# EAGLE library part ATMEGA328P (library FPV-Auto)
ATmega328P 8-Bit Mikrocontroller - MCU 32KB In-system Flash 20MHz 1.8V-5.5V Links Datasheet <http://ww1.microchip.com/downloads/en/DeviceDoc/ATmega48A-PA-88A-PA-168A-PA-328-P-DS-DS40002061A.pdf> Product website <https://www.microchip.com/wwwproducts/en/ATmega328p>
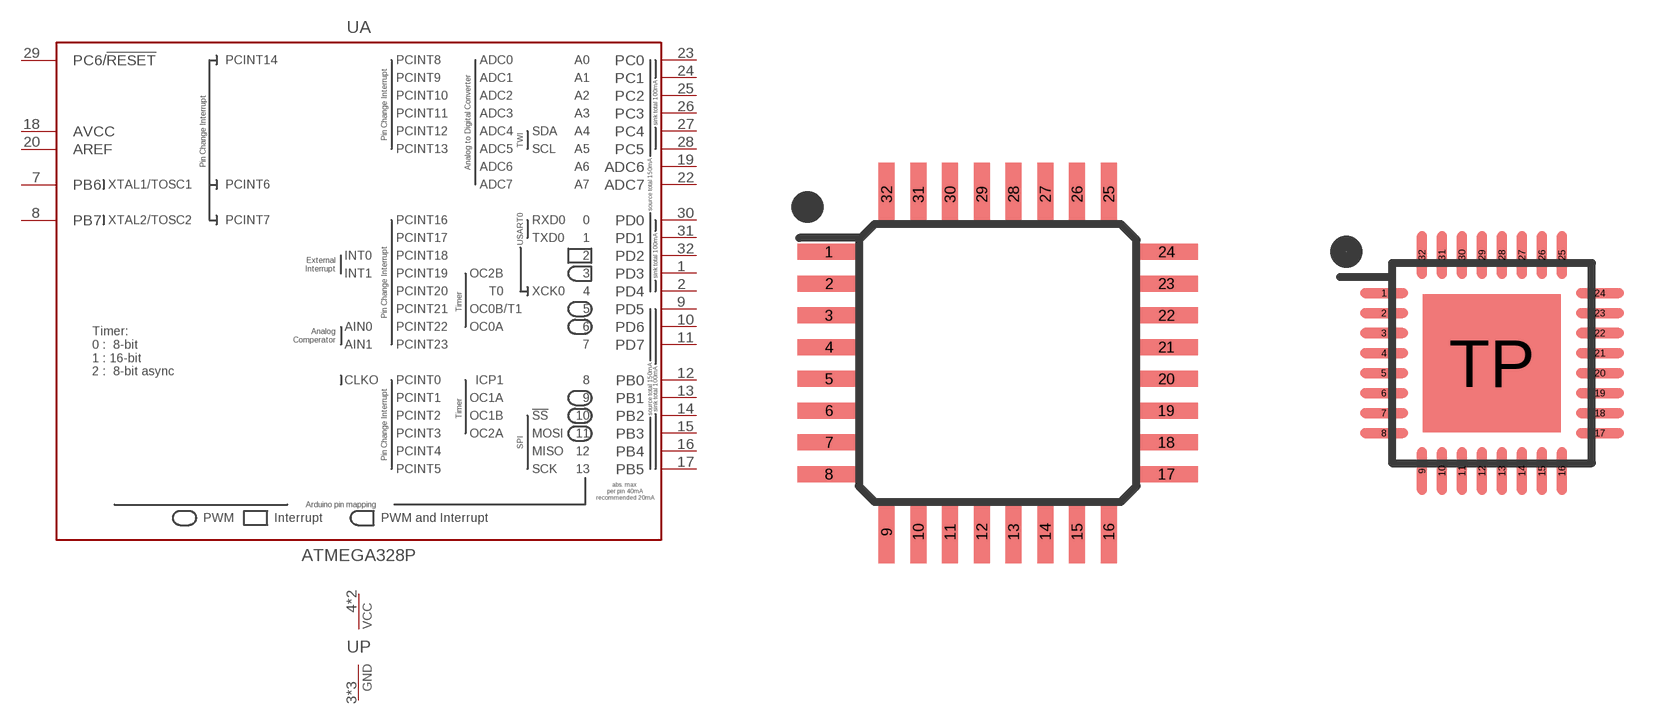
[diagram p8: symbol with the pads of NEY(NEY0032A); footprints NEY(NEY0032A), RTM(S-PVQFN-N32)_NOTP]

Designator prefix U; gates A=ATMEGA328P P=POWER

## ATMEGA328P-AU  [NEY(NEY0032A)]
1  A:PD3
2  A:PD4
3  P:GND  pwr
4  P:VCC  pwr
5  P:GND  pwr
6  P:VCC  pwr
7  A:PB6
8  A:PB7
9  A:PD5
10  A:PD6
11  A:PD7
12  A:PB0
13  A:PB1
14  A:PB2
15  A:PB3
16  A:PB4
17  A:PB5
18  A:AVCC
19  A:ADC6  in
20  A:AREF
21  P:GND  pwr
22  A:ADC7  in
23  A:PC0
24  A:PC1
25  A:PC2
26  A:PC3
27  A:PC4
28  A:PC5
29  A:PC6/!RESET!
30  A:PD0
31  A:PD1
32  A:PD2

## ATMEGA328P-MU  [RTM(S-PVQFN-N32)_NOTP]
1  A:PD3
2  A:PD4
3  P:GND  pwr
4  P:VCC  pwr
5  P:GND  pwr
6  P:VCC  pwr
7  A:PB6
8  A:PB7
9  A:PD5
10  A:PD6
11  A:PD7
12  A:PB0
13  A:PB1
14  A:PB2
15  A:PB3
16  A:PB4
17  A:PB5
18  A:AVCC
19  A:ADC6  in
20  A:AREF
21  P:GND  pwr
22  A:ADC7  in
23  A:PC0
24  A:PC1
25  A:PC2
26  A:PC3
27  A:PC4
28  A:PC5
29  A:PC6/!RESET!
30  A:PD0
31  A:PD1
32  A:PD2
TP  P:GND  pwr

## Footprint NEY(NEY0032A) (pad centres in mm)
smd 1.6 x 0.4: 1 -4.25,2.8; 2 -4.25,2; 3 -4.25,1.2; 4 -4.25,0.4; 5 -4.25,-0.4; 6 -4.25,-1.2; 7 -4.25,-2; 8 -4.25,-2.8; 17 4.25,-2.8; 18 4.25,-2; 19 4.25,-1.2; 20 4.25,-0.4; 21 4.25,0.4; 22 4.25,1.2; 23 4.25,2; 24 4.25,2.8
smd 0.4 x 1.6: 9 -2.8,-4.25; 10 -2,-4.25; 11 -1.2,-4.25; 12 -0.4,-4.25; 13 0.4,-4.25; 14 1.2,-4.25; 15 2,-4.25; 16 2.8,-4.25; 25 2.8,4.25; 26 2,4.25; 27 1.2,4.25; 28 0.4,4.25; 29 -0.4,4.25; 30 -1.2,4.25; 31 -2,4.25; 32 -2.8,4.25

## Footprint RTM(S-PVQFN-N32)_NOTP (pad centres in mm)
smd 1.2 x 0.25: 1 -2.7,1.75; 2 -2.7,1.25; 3 -2.7,0.75; 4 -2.7,0.25; 5 -2.7,-0.25; 6 -2.7,-0.75; 7 -2.7,-1.25; 8 -2.7,-1.75; 17 2.7,-1.75; 18 2.7,-1.25; 19 2.7,-0.75; 20 2.7,-0.25; 21 2.7,0.25; 22 2.7,0.75; 23 2.7,1.25; 24 2.7,1.75
smd 0.25 x 1.2: 9 -1.75,-2.7; 10 -1.25,-2.7; 11 -0.75,-2.7; 12 -0.25,-2.7; 13 0.25,-2.7; 14 0.75,-2.7; 15 1.25,-2.7; 16 1.75,-2.7; 25 1.75,2.7; 26 1.25,2.7; 27 0.75,2.7; 28 0.25,2.7; 29 -0.25,2.7; 30 -0.75,2.7; 31 -1.25,2.7; 32 -1.75,2.7
smd 3.45 x 3.45: TP 0,0